# EAGLE library part SIMM30-2 (library con-amp)
AMP connector
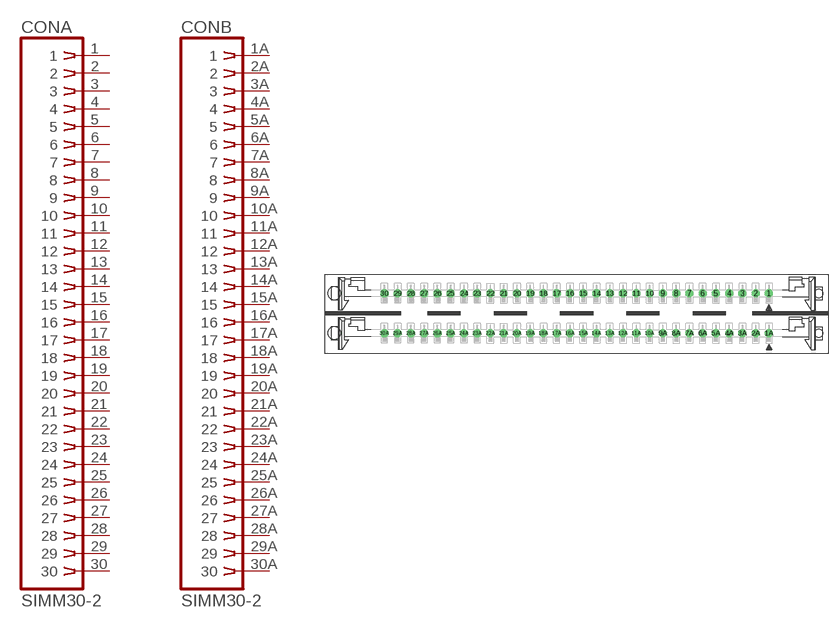
[diagram p39: symbol with the pads of SIMM30-2; footprint SIMM30-2]

Designator prefix CON; gates A=S30A B=S30A

## SIMM30-2  [SIMM30-2]
1  A:1  pas
1A  B:1  pas
2  A:2  pas
2A  B:2  pas
3  A:3  pas
3A  B:3  pas
4  A:4  pas
4A  B:4  pas
5  A:5  pas
5A  B:5  pas
6  A:6  pas
6A  B:6  pas
7  A:7  pas
7A  B:7  pas
8  A:8  pas
8A  B:8  pas
9  A:9  pas
9A  B:9  pas
10  A:10  pas
10A  B:10  pas
11  A:11  pas
11A  B:11  pas
12  A:12  pas
12A  B:12  pas
13  A:13  pas
13A  B:13  pas
14  A:14  pas
14A  B:14  pas
15  A:15  pas
15A  B:15  pas
16  A:16  pas
16A  B:16  pas
17  A:17  pas
17A  B:17  pas
18  A:18  pas
18A  B:18  pas
19  A:19  pas
19A  B:19  pas
20  A:20  pas
20A  B:20  pas
21  A:21  pas
21A  B:21  pas
22  A:22  pas
22A  B:22  pas
23  A:23  pas
23A  B:23  pas
24  A:24  pas
24A  B:24  pas
25  A:25  pas
25A  B:25  pas
26  A:26  pas
26A  B:26  pas
27  A:27  pas
27A  B:27  pas
28  A:28  pas
28A  B:28  pas
29  A:29  pas
29A  B:29  pas
30  A:30  pas
30A  B:30  pas

## Footprint SIMM30-2 (pad centres in mm)
SIMM connector
drill 1.016 octagon: 1 35.56,3.81; 1A 35.56,-3.81; 2 33.02,3.81; 2A 33.02,-3.81; 3 30.48,3.81; 3A 30.48,-3.81; 4 27.94,3.81; 4A 27.94,-3.81; 5 25.4,3.81; 5A 25.4,-3.81; 6 22.86,3.81; 6A 22.86,-3.81; 7 20.32,3.81; 7A 20.32,-3.81; 8 17.78,3.81; 8A 17.78,-3.81; 9 15.24,3.81; 9A 15.24,-3.81; 10 12.7,3.81; 10A 12.7,-3.81; 11 10.16,3.81; 11A 10.16,-3.81; 12 7.62,3.81; 12A 7.62,-3.81; 13 5.08,3.81; 13A 5.08,-3.81; 14 2.54,3.81; 14A 2.54,-3.81; 15 0,3.81; 15A 0,-3.81; 16 -2.54,3.81; 16A -2.54,-3.81; 17 -5.08,3.81; 17A -5.08,-3.81; 18 -7.62,3.81; 18A -7.62,-3.81; 19 -10.16,3.81; 19A -10.16,-3.81; 20 -12.7,3.81; 20A -12.7,-3.81; 21 -15.24,3.81; 21A -15.24,-3.81; 22 -17.78,3.81; 22A -17.78,-3.81; 23 -20.32,3.81; 23A -20.32,-3.81; 24 -22.86,3.81; 24A -22.86,-3.81; 25 -25.4,3.81; 25A -25.4,-3.81; 26 -27.94,3.81; 26A -27.94,-3.81; 27 -30.48,3.81; 27A -30.48,-3.81; 28 -33.02,3.81; 28A -33.02,-3.81; 29 -35.56,3.81; 29A -35.56,-3.81; 30 -38.1,3.81; 30A -38.1,-3.81
hole 2.413 at -47.65,3.835
hole 1.6 at 45.085,3.81
hole 2.413 at -47.65,-3.785
hole 1.6 at 45.085,-3.81